# Altium schematic symbol library AUX_BMS_Lib1.SchLib: 2 symbols
Pins are listed as number, name and electrical type; pins without a type are passive.

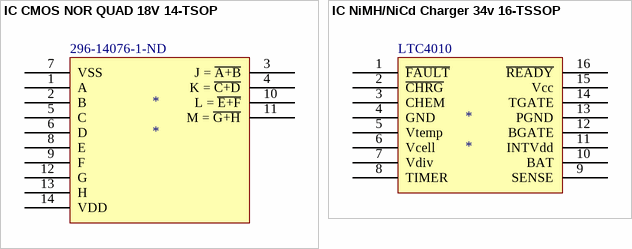
[diagram p0: symbols IC CMOS NOR QUAD 18V 14-TSOP to IC NiMH/NiCd Charger 34v 16-TSSOP]

## IC CMOS NOR QUAD 18V 14-TSOP
designator *  Supplier Part Number 1: 296-14076-1-ND
Supplier 1: Digi-Key
footprint IC CMOS NOR QUAD 18V 14-TSOP (TSOP, 14-Leads, Body 5.00x4.40mm, Pitch 0.65mm, IPC Medium Density)
pins: 1 A, 2 B, 3 J = ~{A+B}, 4 K = ~{C+D}, 5 C, 6 D, 7 VSS, 8 E, 9 F, 10 L = ~{E+F}, 11 M = ~{G+H}, 12 G, 13 H, 14 VDD

## IC NiMH/NiCd Charger 34v 16-TSSOP
designator *
footprint IC NiMH/NiCd Charger 34v 16-TSSOP (TSOP, 16-Leads, Body 5.00x4.40mm, Pitch 0.65mm, Thermal Pad 3.58x2.94mm, IPC Medium Density)
pins: 1 ~{FAULT}, 2 ~{CHRG}, 3 CHEM, 4 GND, 5 Vtemp, 6 Vcell, 7 Vdiv, 8 TIMER, 9 SENSE, 10 BAT, 11 INTVdd, 12 BGATE, 13 PGND, 14 TGATE, 15 Vcc, 16 ~{READY}
text: LTC4010